# EAGLE library part 623350235321 (library Board_to_Board_Connectors_rev15d)
WR-PHD 1.27mm Dual SMT Socket Header H=2.20mm,Bottom Entry, 50 Pins=>Code : Con_BTB_SHD_1.27_2_623350235321 <http://katalog.we-online.de/media/thumbs2/eican/thb_Con_BTB_SHD_1.27_2_6233xx235321_pf2.jpg> Details see: http://katalog.we-online.de/en/em/623_3xx_235_321 Created 2014-06-04, Karrer Zheng 2014 (C) Würth Elektronik
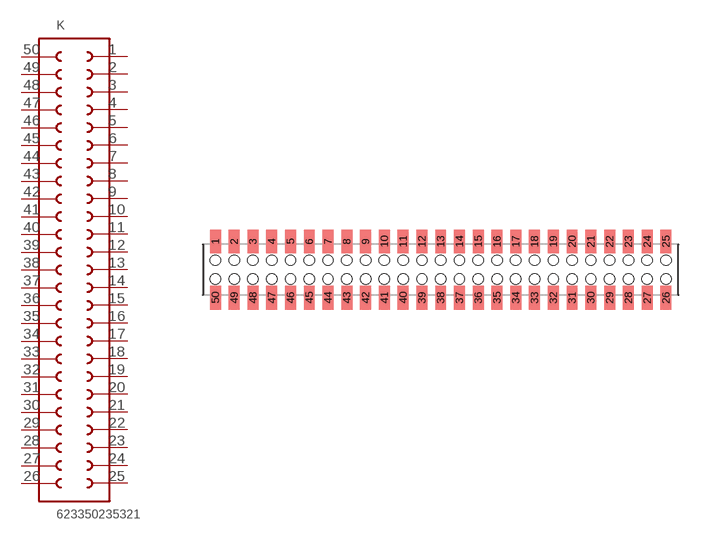
[diagram p315: symbol with the pads of 623350235321; footprint 623350235321]

Designator prefix K

## 623350235321  [623350235321]
1  1  pas
2  2  pas
3  3  pas
4  4  pas
5  5  pas
6  6  pas
7  7  pas
8  8  pas
9  9  pas
10  10  pas
11  11  pas
12  12  pas
13  13  pas
14  14  pas
15  15  pas
16  16  pas
17  17  pas
18  18  pas
19  19  pas
20  20  pas
21  21  pas
22  22  pas
23  23  pas
24  24  pas
25  25  pas
26  26  pas
27  27  pas
28  28  pas
29  29  pas
30  30  pas
31  31  pas
32  32  pas
33  33  pas
34  34  pas
35  35  pas
36  36  pas
37  37  pas
38  38  pas
39  39  pas
40  40  pas
41  41  pas
42  42  pas
43  43  pas
44  44  pas
45  45  pas
46  46  pas
47  47  pas
48  48  pas
49  49  pas
50  50  pas

## Footprint 623350235321 (pad centres in mm)
WR-PHD 1.27mm Dual SMT Socket Header H=2.20mm, Bottom Entry, 50 Pins
smd 0.74 x 1.6: 1 -15.24,1.9; 2 -13.97,1.9; 3 -12.7,1.9; 4 -11.43,1.9; 5 -10.16,1.9; 6 -8.89,1.9; 7 -7.62,1.9; 8 -6.35,1.9; 9 -5.08,1.9; 10 -3.81,1.9; 11 -2.54,1.9; 12 -1.27,1.9; 13 0,1.9; 14 1.27,1.9; 15 2.54,1.9; 16 3.81,1.9; 17 5.08,1.9; 18 6.35,1.9; 19 7.62,1.9; 20 8.89,1.9; 21 10.16,1.9; 22 11.43,1.9; 23 12.7,1.9; 24 13.97,1.9; 25 15.24,1.9; 26 15.24,-1.9; 27 13.97,-1.9; 28 12.7,-1.9; 29 11.43,-1.9; 30 10.16,-1.9; 31 8.89,-1.9; 32 7.62,-1.9; 33 6.35,-1.9; 34 5.08,-1.9; 35 3.81,-1.9; 36 2.54,-1.9; 37 1.27,-1.9; 38 0,-1.9; 39 -1.27,-1.9; 40 -2.54,-1.9; 41 -3.81,-1.9; 42 -5.08,-1.9; 43 -6.35,-1.9; 44 -7.62,-1.9; 45 -8.89,-1.9; 46 -10.16,-1.9; 47 -11.43,-1.9; 48 -12.7,-1.9; 49 -13.97,-1.9; 50 -15.24,-1.9
hole 0.7 at -15.24,0.635
hole 0.7 at -13.97,0.635
hole 0.7 at -12.7,0.635
hole 0.7 at -11.43,0.635
hole 0.7 at -10.16,0.635
hole 0.7 at -8.89,0.635
hole 0.7 at -7.62,0.635
hole 0.7 at -6.35,0.635
hole 0.7 at -5.08,0.635
hole 0.7 at -3.81,0.635
hole 0.7 at -2.54,0.635
hole 0.7 at -1.27,0.635
hole 0.7 at 0,0.635
hole 0.7 at 1.27,0.635
hole 0.7 at 2.54,0.635
hole 0.7 at 3.81,0.635
hole 0.7 at 5.08,0.635
hole 0.7 at 6.35,0.635
hole 0.7 at 7.62,0.635
hole 0.7 at 8.89,0.635
hole 0.7 at 10.16,0.635
hole 0.7 at 11.43,0.635
hole 0.7 at 12.7,0.635
hole 0.7 at 13.97,0.635
hole 0.7 at 15.24,0.635
hole 0.7 at -15.24,-0.635
hole 0.7 at -13.97,-0.635
hole 0.7 at -12.7,-0.635
hole 0.7 at -11.43,-0.635
hole 0.7 at -10.16,-0.635
hole 0.7 at -8.89,-0.635
hole 0.7 at -7.62,-0.635
hole 0.7 at -6.35,-0.635
hole 0.7 at -5.08,-0.635
hole 0.7 at -3.81,-0.635
hole 0.7 at -2.54,-0.635
hole 0.7 at -1.27,-0.635
hole 0.7 at 0,-0.635
hole 0.7 at 1.27,-0.635
hole 0.7 at 2.54,-0.635
hole 0.7 at 3.81,-0.635
hole 0.7 at 5.08,-0.635
hole 0.7 at 6.35,-0.635
hole 0.7 at 7.62,-0.635
hole 0.7 at 8.89,-0.635
hole 0.7 at 10.16,-0.635
hole 0.7 at 11.43,-0.635
hole 0.7 at 12.7,-0.635
hole 0.7 at 13.97,-0.635
hole 0.7 at 15.24,-0.635